# Altium footprint library Carte_alim.PcbLib: 1 footprints
Each footprint in its own frame and in the unit in brackets; x right, y up, seen from the top. Pads: shape width x height; smd on the part's side, far side on the other; paste and mask are expansions set on the pad; w line width, h text height; cw(c..) or ccw(c..) is an arc to the next point about the centre after c.
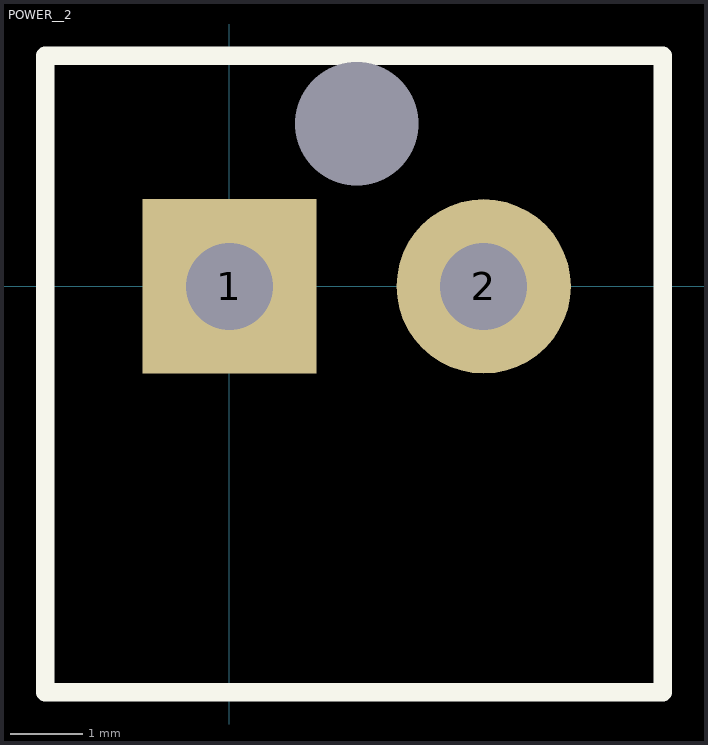
[diagram p0: the footprint, top view; thin cyan lines are the x and y axes]

## POWER__2 [mm] "Embase 895-1836"
pads (3):
  rect 2.4x2.4 hole 1.2: 1(0,0)
  round 2.4 hole 1.2: 2(3.5,0)
  round 0 hole 1.7: 3(1.75,2.24)
Top Overlay:
  lines w0.254: -2.54,-5.588 5.969,-5.588 5.969,3.175 -2.54,3.175 -2.54,-5.588